# Altium integrated library KP15B-6S-SF(800).IntLib: 1 symbol
Pins are listed as number, name and electrical type; pins without a type are passive.

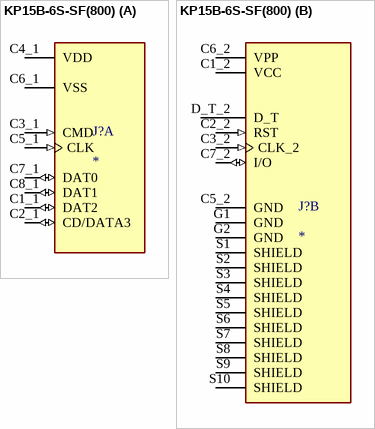
[diagram p0: symbol KP15B-6S-SF(800)]

## KP15B-6S-SF(800)
designator J?
18 (16 + 2) Position Card Connector Combo - microSDâ„¢, NANO SIM Surface Mount, Right Angle Gold; MP: KP15B-6S-SF(800); Package: None; Price: None; Value: *; Availability: Unavailable
footprint HIROSE_KP15B-6S-SF(800)
part A pins: C1_1 DAT2 (io), C2_1 CD/DATA3 (io), C3_1 CMD (in), C4_1 VDD (power), C5_1 CLK (in), C6_1 VSS (power), C7_1 DAT0 (io), C8_1 DAT1 (io)
part B pins: C1_2 VCC (power), C2_2 RST (in), C3_2 CLK_2 (in), C5_2 GND (power), C6_2 VPP (power), C7_2 I/O (io), D_T_2 D_T, G1 GND (power), G2 GND (power), S1 SHIELD, S2 SHIELD, S3 SHIELD, S4 SHIELD, S5 SHIELD, S6 SHIELD, S7 SHIELD, S8 SHIELD, S9 SHIELD, S10 SHIELD